# Altium schematic symbol library SR10S3V3_Schematic.SchLib: 2 symbols
Pins are listed as number, name and electrical type; pins without a type are passive.

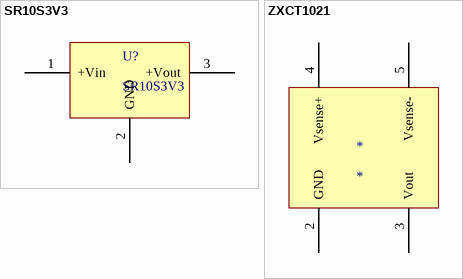
[diagram p0: symbols SR10S3V3 to ZXCT1021]

## SR10S3V3
designator U?
footprint SR10S3V3_Footprint
pins: 1 +Vin, 2 GND, 3 +Vout

## ZXCT1021
designator *
pins: 2 GND, 3 Vout, 4 Vsense+, 5 Vsense-